# EAGLE library part CONN-DIN6 (library robot)
Connecteur d'alimentation du robot et de charge batterie
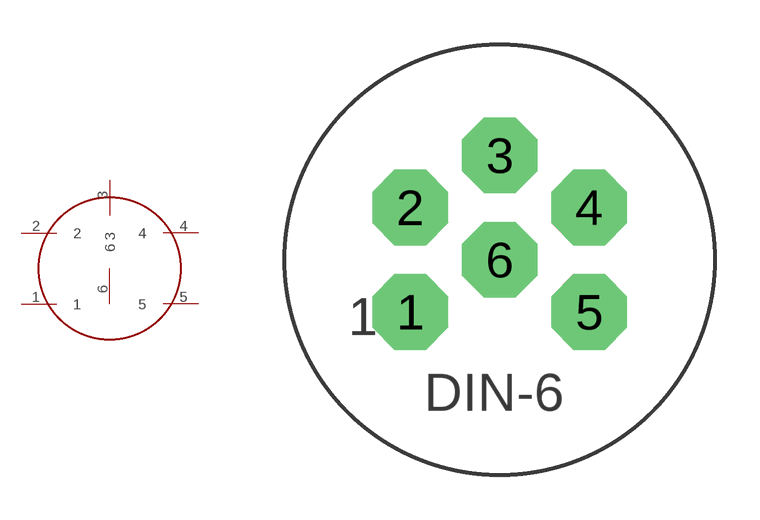
[diagram p3: symbol with the pads of CONN-DIN6; footprint CONN-DIN6]

Designator prefix -

## CONN-DIN6  [CONN-DIN6]
1  1
2  2
3  3
4  4
5  5
6  6

## Footprint CONN-DIN6 (pad centres in mm)
Connecteur DIN 6 broches Empreinte à revoir pour améliorer la soudure.
drill 0.813 pad 2.54 octagon: 1 -3,-1.75; 2 -3,1.75; 3 0,3.5; 4 3,1.75; 5 3,-1.75; 6 0,0